# Altium footprint library Cooper_DRQ73_DRQ74.PcbLib: 1 footprints
Each footprint in its own frame and in the unit in brackets; x right, y up, seen from the top. Pads: shape width x height; smd on the part's side, far side on the other; paste and mask are expansions set on the pad; w line width, h text height; cw(c..) or ccw(c..) is an arc to the next point about the centre after c.
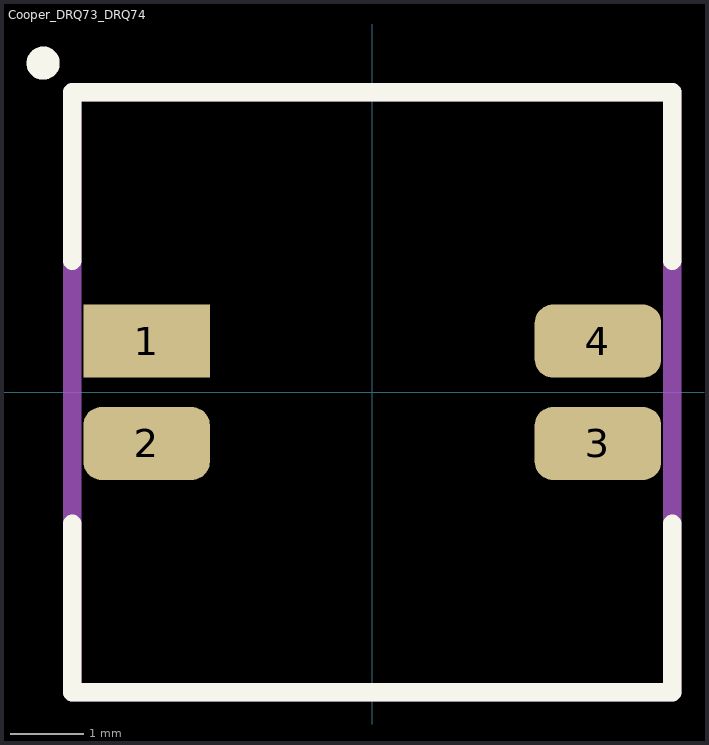
[diagram p0: the footprint, top view; thin cyan lines are the x and y axes]

## Cooper_DRQ73_DRQ74 [mm] "DRQ73 and DRQ74 Series"
height 4.45
pads (4):
  rect 1.73x1 smd: 1(-3.085,0.7)
  rrect50% 1.73x1 smd: 2(-3.085,-0.7) 3(3.085,-0.7) 4(3.085,0.7)
Top Overlay:
  circle w0.254: c-4.5,4.5 r0.1
  lines w0.254: -4.1,-1.8 -4.1,-4.1 4.1,-4.1 4.1,-1.8 ; -4.1,1.8 -4.1,4.1 4.1,4.1 4.1,1.8
Mechanical 15:
  lines w0.254: -4.1,-4.1 -4.1,4.1 4.1,4.1 4.1,-4.1 -4.1,-4.1
3D body: height 4.45, standoff 0, extent -3.8,-3.8 3.8,3.8